# EAGLE library part NRJ6HH (library neutrik)
1/4" stereo jack, switched, half threaded nose
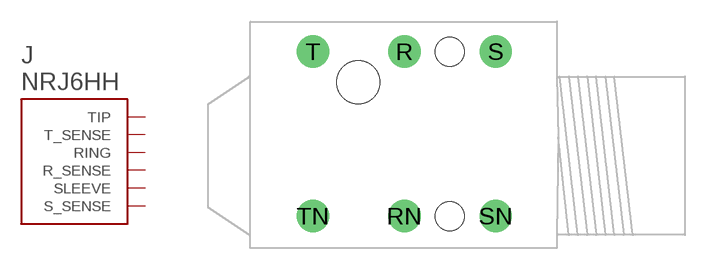
[diagram p0: symbol with the pads of NRJ6HH; footprint NRJ6HH]

Designator prefix J

## NRJ6HH  [NRJ6HH]
R  RING
RN  R_SENSE
S  SLEEVE
SN  S_SENSE
T  TIP
TN  T_SENSE

## Footprint NRJ6HH (pad centres in mm)
drill 1.5: R 0,7.23; RN 0,-4.2; S 6.35,7.23; SN 6.35,-4.2; T -6.35,7.23; TN -6.35,-4.2
hole 2 at 3.15,7.23
hole 2 at 3.15,-4.2
hole 3 at -3.2,5.1